# EAGLE library part BATTERY-MANAGEMENT-TEMP_BQ27441-G1 (library ForestVisionParts)
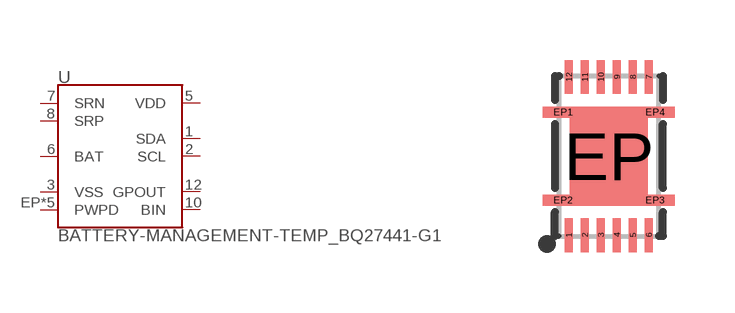
[diagram p8: symbol with the pads of BATTERY-MANAGEMENT-TEMP_PDSO-N12; footprint BATTERY-MANAGEMENT-TEMP_PDSO-N12]

Designator prefix U

## BATTERY-MANAGEMENT-TEMP_BQ27441-G1  [BATTERY-MANAGEMENT-TEMP_PDSO-N12]
1  SDA
2  SCL
3  VSS
5  VDD
6  BAT
7  SRN
8  SRP
10  BIN
12  GPOUT
EP  PWPD
EP1  PWPD
EP2  PWPD
EP3  PWPD
EP4  PWPD

## Footprint BATTERY-MANAGEMENT-TEMP_PDSO-N12 (pad centres in mm)
smd 0.2 x 0.85: 1 -1,-1.975; 2 -0.6,-1.975; 3 -0.2,-1.975; 4 0.2,-1.975; 5 0.6,-1.975; 6 1,-1.975; 7 1,1.975; 8 0.6,1.975; 9 0.2,1.975; 10 -0.2,1.975; 11 -0.6,1.975; 12 -1,1.975
smd 1.95 x 1.95: EP 0,0
smd 1 x 0.25: EP1 -1.15,1.1; EP2 -1.15,-1.1; EP3 1.15,-1.1; EP4 1.15,1.1